# Altium schematic symbol library 0805 28K.Schlib: 1 symbol
Pins are listed as number, name and electrical type; pins without a type are passive.

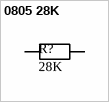
[diagram p0: symbol 0805 28K]

## 0805 28K
designator R?, comment value 28K  (hidden comment: Resistor)
28kΩ ±1% 0.125W ±100ppm/℃ 0805 Chip Resistor - Surface Mount RoHS; ComponentLink1Description: LCSC  - UNI-ROYAL(Uniroyal Elec) 0805W8F2802T5E; ComponentLink1URL: https://lcsc.com/product-detail/Chip-Resistor-Surface-Mount_UNI-ROYAL-Uniroyal-Elec-0805W8F2802T5E_C17600.html; LCSC Part #: C17600; JLCPCB Part Type: Extended
footprint RES 0805_2012 (Chip Resistor, 2-Leads, Body 2.00x1.25mm, IPC Medium Density)
pins: 1, 2